# EAGLE library part 76615 (library trafo-murata)
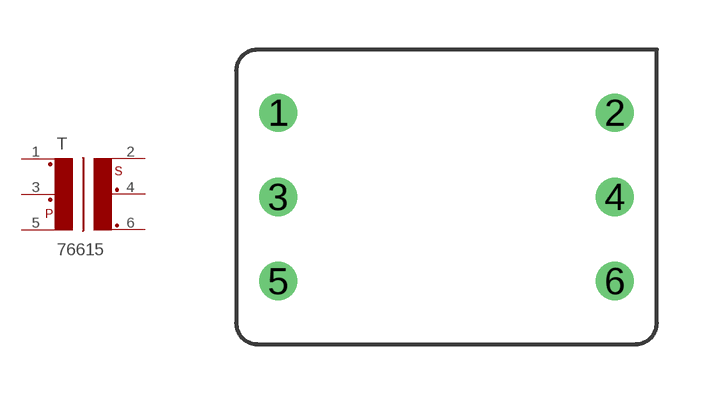
[diagram p4: symbol with the pads of 766-6; footprint 766-6]

Designator prefix T

## 76615  [766-6]
1  1  pas
2  6  pas
3  2  pas
4  5  pas
5  3  pas
6  4  pas

## Footprint 766-6 (pad centres in mm)
drill 0.65: 1 -5.08,2.54; 2 5.08,2.54; 3 -5.08,0; 4 5.08,0; 5 -5.08,-2.54; 6 5.08,-2.54